# Altium footprint library PcbLib.PcbLib: 37 footprints (part 3 of 3)
Each footprint in its own frame and in the unit in brackets; x right, y up, seen from the top. Pads: shape width x height; smd on the part's side, far side on the other; paste and mask are expansions set on the pad; w line width, h text height; cw(c..) or ccw(c..) is an arc to the next point about the centre after c.
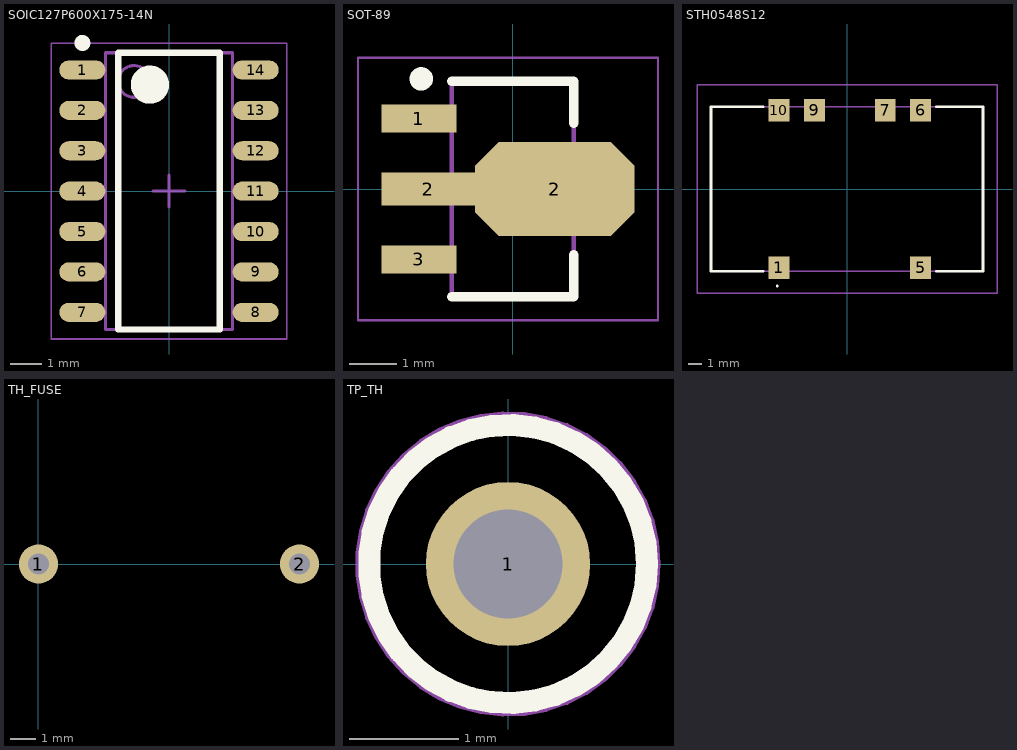
[diagram p2: the footprints below, top view; thin cyan lines are the x and y axes]

## SOIC127P600X175-14N [mm] "SOIC, 14-Leads, Body 8.65x3.90mm, Pitch 1.27mm, IPC Medium Density"
height 1.75
pads (14):
  oval 1.45x0.6 smd: 1(-2.725,3.81) 2(-2.725,2.54) 3(-2.725,1.27) 4(-2.725,0) 5(-2.725,-1.27) 6(-2.725,-2.54) 7(-2.725,-3.81) 8(2.725,-3.81) 9(2.725,-2.54) 10(2.725,-1.27) 11(2.725,0) 12(2.725,1.27) 13(2.725,2.54) 14(2.725,3.81)
Top Overlay:
  circle w0.6: c-0.6,3.35 r0.3
  circle w0.25: c-2.725,4.66 r0.125
  lines w0.2: -1.6,-4.35 1.6,-4.35 1.6,4.35 -1.6,4.35 -1.6,-4.35
Mechanical 13:
  circle w0.1: c-1.1,3.45 r0.5
  lines w0.1: -2,-4.35 2,-4.35 2,4.35 -2,4.35 -2,-4.35
Mechanical 15:
  lines w0.05: -3.7,-4.65 3.7,-4.65 3.7,4.65 -3.7,4.65 -3.7,-4.65
  lines w0.1: -0.5,0 0.5,0 ; 0,-0.5 0,0.5
3D body: height 1.75, standoff 0.1, extent -2,-4.35 2,4.35

## SOT-89 [mm] "SOT89, 3-Leads, Body 4.5x2.4 mm, Pitch 1.5mm, Lead Span 4.1mm, IPC Low Density"
height 1.6
pads (4):
  rect 1.6x0.6 smd: 1(-2,1.5) 3(-2,-1.5)
  rect 2x0.7 smd: 2(-1.8,0)
  oct 3.4x2 smd: 2(0.9,0)
Top Overlay:
  circle w0.25: c-1.95,2.35 r0.125
  lines w0.2: -1.3,-2.3 1.3,-2.3 1.3,-1.4 ; -1.3,2.3 1.3,2.3 1.3,1.4
Mechanical 13:
  lines w0.1: -1.3,-2.3 -1.3,2.3 1.3,2.3 1.3,-2.3 -1.3,-2.3
Mechanical 15:
  lines w0.05: -3.3,-2.8 -3.3,2.8 3.1,2.8 3.1,-2.8 -3.3,-2.8
3D body "TO-243AA.stp": height 1.6, standoff 0, extent -2.25,-2.29 2,2.29

## STH0548S12 [mm]
pads (6):
  rect 1.5x1.61 smd: 1(-4.88,-5.655) 5(5.28,-5.655) 6(5.28,5.655) 7(2.74,5.655) 9(-2.34,5.655) 10(-4.88,5.655)
Top Overlay:
  lines w0.1: -5,-7 ccw(c-5,-6.95) -5,-6.9 ccw(c-5,-6.95) -5,-7
  lines w0.2: -6,-5.9 -9.75,-5.9 -9.75,5.9 -6,5.9 ; 6.4,-5.9 9.75,-5.9 9.75,5.9 6.4,5.9
Mechanical 13:
  lines w0.1: -9.75,-5.9 9.75,-5.9 9.75,5.9 -9.75,5.9 -9.75,-5.9
Mechanical 15:
  lines w0.1: -10.75,-7.46 10.75,-7.46 10.75,7.46 -10.75,7.46 -10.75,-7.46
3D body "STH0548S15.stp": height 5.6, standoff 0, extent -9.75,-6.31 9.75,6.31

## TH_FUSE [mil]
pads (2):
  round 60 hole 31.89: 1(0,0) 2(401.57,0)

## TP_TH [mm] "Test Point, Through Hole, Dia 2.54mm"
height 4.57
pads (1):
  round 1.5 hole 1: 1(0,0)
Top Overlay:
  circle w0.2: c0,0 r1.27
Mechanical 13:
  circle w0.1: c0,0 r1.27
Mechanical 15:
  circle w0.05: c0,0 r1.37
  lines w0.1: -0.5,0 0.5,0 ; 0,-0.5 0,0.5
3D body "User Library-Test Point Keystone - 5003 ORANGE.STEP": height 4.57, standoff -3.05, extent -1.27,-1.27 1.27,1.27